# Altium schematic symbol library 10118194-0001LF.SchLib: 1 symbol
Pins are listed as number, name and electrical type; pins without a type are passive.

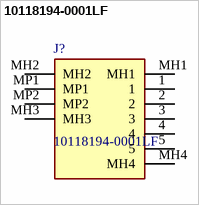
[diagram p0: symbol 10118194-0001LF]

## 10118194-0001LF
designator J?
Micro USB, Input Output Connectors, B TYPE RECEPTACLE with flange; Manufacturer_Name: Amphenol Communications Solutions; Geometry.Height: 3.25mm; TME Electronic Components Part Number: *; TME Electronic Components Price/Stock: *; Manufacturer_Part_Number: 10118194-0001LF; Datasheet Link: https://www.amphenol-cs.com/micro-usb-101181940001lf.html
footprint 101181940001LF
pins: 1, 2, 3, 4, 5, MH1, MH2, MH3, MH4, MP1, MP2